# EAGLE library part MC6847 (library Signetics)
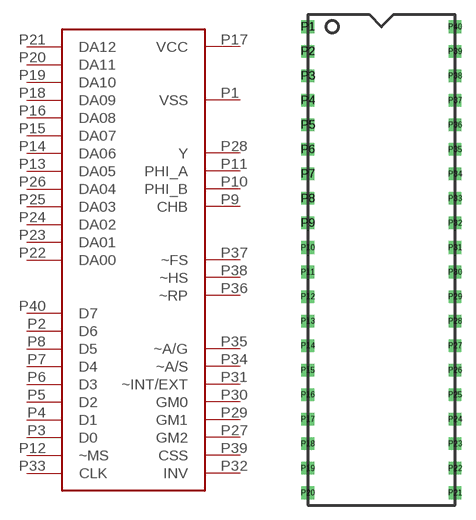
[diagram p2: symbol with the pads of MC6847; footprint MC6847]

Designator prefix -

## MC6847  [MC6847]
P1  VSS
P2  D6
P3  D0
P4  D1
P5  D2
P6  D3
P7  D4
P8  D5
P9  CHB
P10  PHI_B
P11  PHI_A
P12  ~MS
P13  DA05
P14  DA06
P15  DA07
P16  DA08
P17  VCC
P18  DA09
P19  DA10
P20  DA11
P21  DA12
P22  DA00
P23  DA01
P24  DA02
P25  DA03
P26  DA04
P27  GM2
P28  Y
P29  GM1
P30  GM0
P31  ~INT/EXT
P32  INV
P33  CLK
P34  ~A/S
P35  ~A/G
P36  ~RP
P37  ~FS
P38  ~HS
P39  CSS
P40  D7

## Footprint MC6847 (pad centres in mm)
drill 0.8 square: P1 -8.89,24.13; P2 -8.89,21.59; P3 -8.89,19.05; P4 -8.89,16.51; P5 -8.89,13.97; P6 -8.89,11.43; P7 -8.89,8.89; P8 -8.89,6.35; P9 -8.89,3.81; P10 -8.89,1.27; P11 -8.89,-1.27; P12 -8.89,-3.81; P13 -8.89,-6.35; P14 -8.89,-8.89; P15 -8.89,-11.43; P16 -8.89,-13.97; P17 -8.89,-16.51; P18 -8.89,-19.05; P19 -8.89,-21.59; P20 -8.89,-24.13; P21 6.35,-24.13; P22 6.35,-21.59; P23 6.35,-19.05; P24 6.35,-16.51; P25 6.35,-13.97; P26 6.35,-11.43; P27 6.35,-8.89; P28 6.35,-6.35; P29 6.35,-3.81; P30 6.35,-1.27; P31 6.35,1.27; P32 6.35,3.81; P33 6.35,6.35; P34 6.35,8.89; P35 6.35,11.43; P36 6.35,13.97; P37 6.35,16.51; P38 6.35,19.05; P39 6.35,21.59; P40 6.35,24.13